# Altium footprint library ATMEGA.PcbLib: 3 footprints
Each footprint in its own frame and in the unit in brackets; x right, y up, seen from the top. Pads: shape width x height; smd on the part's side, far side on the other; paste and mask are expansions set on the pad; w line width, h text height; cw(c..) or ccw(c..) is an arc to the next point about the centre after c.
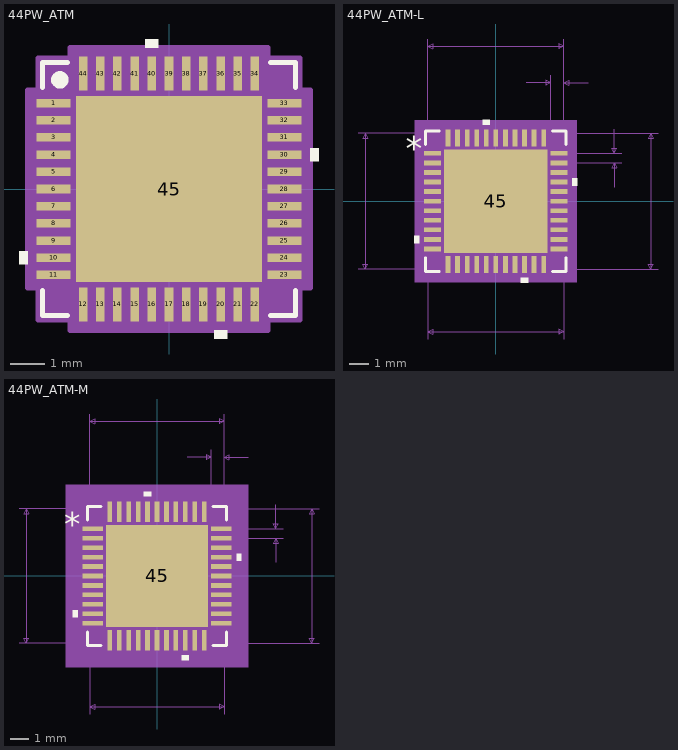
[diagram p0: the footprints below, top view; thin cyan lines are the x and y axes]

## 44PW_ATM [mm]
pads (45):
  rect 0.995x0.249 smd paste+0 mask+0: 1(-3.357,2.5) 2(-3.357,2) 3(-3.357,1.5) 4(-3.357,1) 5(-3.357,0.5) 6(-3.357,0) 7(-3.357,-0.5) 8(-3.357,-1) 9(-3.357,-1.5) 10(-3.357,-2) 11(-3.357,-2.5) 23(3.357,-2.5) 24(3.357,-2) 25(3.357,-1.5) 26(3.357,-1) 27(3.357,-0.5) 28(3.357,0) 29(3.357,0.5) 30(3.357,1) 31(3.357,1.5) 32(3.357,2) 33(3.357,2.5)
  rect 0.249x0.995 smd paste+0 mask+0: 12(-2.5,-3.357) 13(-2,-3.357) 14(-1.5,-3.357) 15(-1,-3.357) 16(-0.5,-3.357) 17(0,-3.357) 18(0.5,-3.357) 19(1,-3.357) 20(1.5,-3.357) 21(2,-3.357) 22(2.5,-3.357) 34(2.5,3.357) 35(2,3.357) 36(1.5,3.357) 37(1,3.357) 38(0.5,3.357) 39(0,3.357) 40(-0.5,3.357) 41(-1,3.357) 42(-1.5,3.357) 43(-2,3.357) 44(-2.5,3.357)
  rect 5.4x5.4 smd paste-2.687 mask+0: 45(0,0)
Top Overlay:
  circle w0.254: c-3.175,3.175 r0.127
  region: -0.309,4.109 -0.69,4.109 -0.69,4.363 -0.309,4.363
  region: 4.109,1.191 4.363,1.191 4.363,0.81 4.109,0.81
  region: 1.69,-4.109 1.309,-4.109 1.309,-4.363 1.69,-4.363
  region: -4.109,-1.81 -4.363,-1.81 -4.363,-2.191 -4.109,-2.191
  lines w0.152: -3.677,-2.957 -3.677,-3.677 -2.957,-3.677 ; -3.677,2.957 -3.677,3.677 -2.957,3.677 ; 2.957,-3.677 3.677,-3.677 3.677,-2.957 ; 2.957,3.677 3.677,3.677 3.677,2.957
Top Paste:
  region: 2.6,-1.45 1.45,-1.45 1.45,-2.6 2.6,-2.6
  region: 2.6,-0.1 1.45,-0.1 1.45,-1.25 2.6,-1.25
  region: 2.6,1.25 1.45,1.25 1.45,0.1 2.6,0.1
  region: 2.6,2.6 1.45,2.6 1.45,1.45 2.6,1.45
  region: 1.25,-1.45 0.1,-1.45 0.1,-2.6 1.25,-2.6
  region: 1.25,-0.1 0.1,-0.1 0.1,-1.25 1.25,-1.25
  region: 1.25,1.25 0.1,1.25 0.1,0.1 1.25,0.1
  region: 1.25,2.6 0.1,2.6 0.1,1.45 1.25,1.45
  region: -0.1,-1.45 -1.25,-1.45 -1.25,-2.6 -0.1,-2.6
  region: -0.1,-0.1 -1.25,-0.1 -1.25,-1.25 -0.1,-1.25
  region: -0.1,1.25 -1.25,1.25 -1.25,0.1 -0.1,0.1
  region: -0.1,2.6 -1.25,2.6 -1.25,1.45 -0.1,1.45
  region: -1.45,-1.45 -2.6,-1.45 -2.6,-2.6 -1.45,-2.6
  region: -1.45,-0.1 -2.6,-0.1 -2.6,-1.25 -1.45,-1.25
  region: -1.45,1.25 -2.6,1.25 -2.6,0.1 -1.45,0.1
  region: -1.45,2.6 -2.6,2.6 -2.6,1.45 -1.45,1.45
Mechanical 13:
  lines w0.025: -3.55,2.28 -2.28,3.55 ; -3.55,-3.55 -3.55,3.55 3.55,3.55 3.55,-3.55 -3.55,-3.55 ; -3.55,-2.65 -3.55,-2.35 -3.55,-2.65 ; -3.55,-2.15 -3.55,-1.85 -3.55,-2.15 ; -3.55,-1.65 -3.55,-1.35 -3.55,-1.65 ; -3.55,-1.15 -3.55,-0.85 -3.55,-1.15 ; -3.55,-0.65 -3.55,-0.35 -3.55,-0.65 ; -3.55,-0.15 -3.55,0.15 -3.55,-0.15 ; -3.55,0.35 -3.55,0.65 -3.55,0.35 ; -3.55,0.85 -3.55,1.15 -3.55,0.85 ; -3.55,1.35 -3.55,1.65 -3.55,1.35 ; -3.55,1.85 -3.55,2.15 -3.55,1.85 ; -3.55,2.35 -3.55,2.65 -3.55,2.35 ; -2.65,-3.55 -2.35,-3.55 -2.65,-3.55 ; -2.65,3.55 -2.35,3.55 -2.65,3.55 ; -2.15,-3.55 -1.85,-3.55 -2.15,-3.55 ; -2.15,3.55 -1.85,3.55 -2.15,3.55 ; -1.65,-3.55 -1.35,-3.55 -1.65,-3.55 ; -1.65,3.55 -1.35,3.55 -1.65,3.55 ; -1.15,-3.55 -0.85,-3.55 -1.15,-3.55 ; -1.15,3.55 -0.85,3.55 -1.15,3.55 ; -0.65,-3.55 -0.35,-3.55 -0.65,-3.55 ; -0.65,3.55 -0.35,3.55 -0.65,3.55 ; -0.15,-3.55 0.15,-3.55 -0.15,-3.55 ; -0.15,3.55 0.15,3.55 -0.15,3.55 ; 0.35,-3.55 0.65,-3.55 0.35,-3.55 ; 0.35,3.55 0.65,3.55 0.35,3.55 ; 0.85,-3.55 1.15,-3.55 0.85,-3.55 ; 0.85,3.55 1.15,3.55 0.85,3.55 ; 1.35,-3.55 1.65,-3.55 1.35,-3.55 ; 1.35,3.55 1.65,3.55 1.35,3.55 ; 1.85,-3.55 2.15,-3.55 1.85,-3.55 ; 1.85,3.55 2.15,3.55 1.85,3.55 ; 2.35,-3.55 2.65,-3.55 2.35,-3.55 ; 2.35,3.55 2.65,3.55 2.35,3.55 ; 3.55,-2.65 3.55,-2.35 3.55,-2.65 ; 3.55,-2.15 3.55,-1.85 3.55,-2.15 ; 3.55,-1.65 3.55,-1.35 3.55,-1.65 ; 3.55,-1.15 3.55,-0.85 3.55,-1.15 ; 3.55,-0.65 3.55,-0.35 3.55,-0.65 ; 3.55,-0.15 3.55,0.15 3.55,-0.15 ; 3.55,0.35 3.55,0.65 3.55,0.35 ; 3.55,0.85 3.55,1.15 3.55,0.85 ; 3.55,1.35 3.55,1.65 3.55,1.35 ; 3.55,1.85 3.55,2.15 3.55,1.85 ; 3.55,2.35 3.55,2.65 3.55,2.35
Mechanical 15:
  region: -2.879,-3.804 -3.804,-3.804 -3.804,-2.879 -4.109,-2.879 -4.109,2.879 -3.804,2.879 -3.804,3.804 -2.879,3.804 -2.879,4.109 2.879,4.109 2.879,3.804 3.804,3.804 3.804,2.879 4.109,2.879 4.109,-2.879 3.804,-2.879 3.804,-3.804 2.879,-3.804 2.879,-4.109 -2.879,-4.109
  lines w0.152: -4.109,-2.879 -4.109,2.879 -3.804,2.879 -3.804,3.804 -2.879,3.804 -2.879,4.109 2.879,4.109 2.879,3.804 3.804,3.804 3.804,2.879 4.109,2.879 4.109,-2.879 3.804,-2.879 3.804,-3.804 2.879,-3.804 2.879,-4.109 -2.879,-4.109 -2.879,-3.804 -3.804,-3.804 -3.804,-2.879 -4.109,-2.879
3D body "44PW_ATM.step": height 1.65, standoff 0, extent -3.55,-3.55 3.55,3.55

## 44PW_ATM-L [mm]
pads (45):
  rect 0.893x0.249 smd paste+0 mask+0: 1(-3.307,2.5) 2(-3.307,2) 3(-3.307,1.5) 4(-3.307,1) 5(-3.307,0.5) 6(-3.307,0) 7(-3.307,-0.5) 8(-3.307,-1) 9(-3.307,-1.5) 10(-3.307,-2) 11(-3.307,-2.5) 23(3.307,-2.5) 24(3.307,-2) 25(3.307,-1.5) 26(3.307,-1) 27(3.307,-0.5) 28(3.307,0) 29(3.307,0.5) 30(3.307,1) 31(3.307,1.5) 32(3.307,2) 33(3.307,2.5)
  rect 0.249x0.893 smd paste+0 mask+0: 12(-2.5,-3.307) 13(-2,-3.307) 14(-1.5,-3.307) 15(-1,-3.307) 16(-0.5,-3.307) 17(0,-3.307) 18(0.5,-3.307) 19(1,-3.307) 20(1.5,-3.307) 21(2,-3.307) 22(2.5,-3.307) 34(2.5,3.307) 35(2,3.307) 36(1.5,3.307) 37(1,3.307) 38(0.5,3.307) 39(0,3.307) 40(-0.5,3.307) 41(-1,3.307) 42(-1.5,3.307) 43(-2,3.307) 44(-2.5,3.307)
  rect 5.4x5.4 smd paste-2.687 mask+0: 45(0,0)
Top Overlay:
  region: -4.007,-1.81 -4.261,-1.81 -4.261,-2.191 -4.007,-2.191
  region: 1.69,-4.007 1.309,-4.007 1.309,-4.261 1.69,-4.261
  region: 4.007,1.191 4.261,1.191 4.261,0.81 4.007,0.81
  region: -0.309,4.007 -0.69,4.007 -0.69,4.261 -0.309,4.261
  lines w0.152: -3.677,-2.957 -3.677,-3.677 -2.957,-3.677 ; -3.677,2.957 -3.677,3.677 -2.957,3.677 ; 2.957,-3.677 3.677,-3.677 3.677,-2.957 ; 2.957,3.677 3.677,3.677 3.677,2.957
  text "*" at -4.706,2.115 h1.27
Top Paste:
  region: -1.45,2.6 -2.6,2.6 -2.6,1.45 -1.45,1.45
  region: -1.45,1.25 -2.6,1.25 -2.6,0.1 -1.45,0.1
  region: -1.45,-0.1 -2.6,-0.1 -2.6,-1.25 -1.45,-1.25
  region: -1.45,-1.45 -2.6,-1.45 -2.6,-2.6 -1.45,-2.6
  region: -0.1,2.6 -1.25,2.6 -1.25,1.45 -0.1,1.45
  region: -0.1,1.25 -1.25,1.25 -1.25,0.1 -0.1,0.1
  region: -0.1,-0.1 -1.25,-0.1 -1.25,-1.25 -0.1,-1.25
  region: -0.1,-1.45 -1.25,-1.45 -1.25,-2.6 -0.1,-2.6
  region: 1.25,2.6 0.1,2.6 0.1,1.45 1.25,1.45
  region: 1.25,1.25 0.1,1.25 0.1,0.1 1.25,0.1
  region: 1.25,-0.1 0.1,-0.1 0.1,-1.25 1.25,-1.25
  region: 1.25,-1.45 0.1,-1.45 0.1,-2.6 1.25,-2.6
  region: 2.6,2.6 1.45,2.6 1.45,1.45 2.6,1.45
  region: 2.6,1.25 1.45,1.25 1.45,0.1 2.6,0.1
  region: 2.6,-0.1 1.45,-0.1 1.45,-1.25 2.6,-1.25
  region: 2.6,-1.45 1.45,-1.45 1.45,-2.6 2.6,-2.6
Mechanical 5:
  region: 4.236,-4.236 -4.236,-4.236 -4.236,4.236 4.236,4.236
Mechanical 7:
  lines w0.025: -7.208,-3.55 3.55,-3.55 ; -7.208,3.55 3.55,3.55 3.55,-7.208 ; -3.55,-7.208 -3.55,3.55 ; -3.55,2.5 -3.55,8.478 ; 1.59,6.192 2.86,6.192 ; 2.5,-3.55 8.478,-3.55 ; 2.5,3.55 8.478,3.55 ; 2.86,2.5 2.86,6.573 ; 3.307,2 6.573,2 ; 3.307,2.5 6.573,2.5 ; 3.55,6.573 3.55,2.5 3.55,8.478 ; 4.82,6.192 3.55,6.192 ; 6.192,0.73 6.192,2 ; 6.192,3.77 6.192,2.5 ; -6.827,-3.55 -6.827,3.55 ; -6.827,-3.55 -6.954,-3.296 -6.7,-3.296 -6.827,-3.55 ; -6.827,3.55 -6.954,3.296 -6.7,3.296 -6.827,3.55 ; -3.55,-6.827 3.55,-6.827 ; -3.55,-6.827 -3.296,-6.7 -3.296,-6.954 -3.55,-6.827 ; -3.55,8.097 3.55,8.097 ; -3.55,8.097 -3.296,8.224 -3.296,7.97 -3.55,8.097 ; 2.86,6.192 2.606,6.319 2.606,6.065 2.86,6.192 ; 3.55,-6.827 3.296,-6.7 3.296,-6.954 3.55,-6.827 ; 3.55,6.192 3.804,6.319 3.804,6.065 3.55,6.192 ; 3.55,8.097 3.296,8.224 3.296,7.97 3.55,8.097 ; 6.192,2 6.065,1.746 6.319,1.746 6.192,2 ; 6.192,2.5 6.065,2.754 6.319,2.754 6.192,2.5 ; 8.097,-3.55 8.097,3.55 ; 8.097,-3.55 7.97,-3.296 8.224,-3.296 8.097,-3.55 ; 8.097,3.55 7.97,3.296 8.224,3.296 8.097,3.55
  text "Default Padstyle: RX9p81Y35p17D0T" at -10.477,-11.627 h1.27
  text "Heat Tab Padstyle: RX212p6Y212p6D0T" at -11.112,-13.151 h1.27
  text "Alt 1 Padstyle: RX29Y107D0T" at -8.572,-16.199 h1.27
  text "Alt 2 Padstyle: OX90Y60D30P" at -8.572,-17.723 h1.27
  text "0.02in/0.5mm" at 6.7,1.933 h0.64
  text "0.027in/0.69mm" at 0.982,6.7 h0.64
  text "0.28in/7.1mm" at -1.905,8.605 h0.64
  text "0.28in/7.1mm" at 8.605,-0.318 h0.64
  text "0.28in/7.1mm" at -11.145,-0.318 h0.64
  text "0.28in/7.1mm" at -1.905,-7.97 h0.64
Mechanical 13:
  drawing of 185 lines, arcs and shapes, not listed
  text "*" at -3.177,2.115 h1.27
Mechanical 15:
  region: -2.726,-3.652 -3.652,-3.652 -3.652,-2.726 -3.855,-2.726 -3.855,2.726 -3.652,2.726 -3.652,3.652 -2.726,3.652 -2.726,3.855 2.726,3.855 2.726,3.652 3.652,3.652 3.652,2.726 3.855,2.726 3.855,-2.726 3.652,-2.726 3.652,-3.652 2.726,-3.652 2.726,-3.855 -2.726,-3.855
  lines w0.152: -3.855,-2.726 -3.652,-2.726 -3.652,-3.652 -2.726,-3.652 -2.726,-3.855 2.726,-3.855 2.726,-3.652 3.652,-3.652 3.652,-2.726 3.855,-2.726 3.855,2.726 3.652,2.726 3.652,3.652 2.726,3.652 2.726,3.855 -2.726,3.855 -2.726,3.652 -3.652,3.652 -3.652,2.726 -3.855,2.726 -3.855,-2.726
3D body "44PW_ATM.step": height 1.65, standoff 0, extent -3.55,-3.55 3.55,3.55

## 44PW_ATM-M [mm]
pads (45):
  rect 1.096x0.249 smd paste+0 mask+0: 1(-3.408,2.5) 2(-3.408,2) 3(-3.408,1.5) 4(-3.408,1) 5(-3.408,0.5) 6(-3.408,0) 7(-3.408,-0.5) 8(-3.408,-1) 9(-3.408,-1.5) 10(-3.408,-2) 11(-3.408,-2.5) 23(3.408,-2.5) 24(3.408,-2) 25(3.408,-1.5) 26(3.408,-1) 27(3.408,-0.5) 28(3.408,0) 29(3.408,0.5) 30(3.408,1) 31(3.408,1.5) 32(3.408,2) 33(3.408,2.5)
  rect 0.249x1.096 smd paste+0 mask+0: 12(-2.5,-3.408) 13(-2,-3.408) 14(-1.5,-3.408) 15(-1,-3.408) 16(-0.5,-3.408) 17(0,-3.408) 18(0.5,-3.408) 19(1,-3.408) 20(1.5,-3.408) 21(2,-3.408) 22(2.5,-3.408) 34(2.5,3.408) 35(2,3.408) 36(1.5,3.408) 37(1,3.408) 38(0.5,3.408) 39(0,3.408) 40(-0.5,3.408) 41(-1,3.408) 42(-1.5,3.408) 43(-2,3.408) 44(-2.5,3.408)
  rect 5.4x5.4 smd paste-2.687 mask+0: 45(0,0)
Top Overlay:
  region: -4.21,-1.81 -4.464,-1.81 -4.464,-2.191 -4.21,-2.191
  region: 1.69,-4.21 1.309,-4.21 1.309,-4.464 1.69,-4.464
  region: 4.21,1.191 4.464,1.191 4.464,0.81 4.21,0.81
  region: -0.309,4.21 -0.69,4.21 -0.69,4.464 -0.309,4.464
  lines w0.152: -3.677,-2.957 -3.677,-3.677 -2.957,-3.677 ; -3.677,2.957 -3.677,3.677 -2.957,3.677 ; 2.957,-3.677 3.677,-3.677 3.677,-2.957 ; 2.957,3.677 3.677,3.677 3.677,2.957
  text "*" at -4.909,2.115 h1.27
Top Paste:
  region: -1.45,2.6 -2.6,2.6 -2.6,1.45 -1.45,1.45
  region: -1.45,1.25 -2.6,1.25 -2.6,0.1 -1.45,0.1
  region: -1.45,-0.1 -2.6,-0.1 -2.6,-1.25 -1.45,-1.25
  region: -1.45,-1.45 -2.6,-1.45 -2.6,-2.6 -1.45,-2.6
  region: -0.1,2.6 -1.25,2.6 -1.25,1.45 -0.1,1.45
  region: -0.1,1.25 -1.25,1.25 -1.25,0.1 -0.1,0.1
  region: -0.1,-0.1 -1.25,-0.1 -1.25,-1.25 -0.1,-1.25
  region: -0.1,-1.45 -1.25,-1.45 -1.25,-2.6 -0.1,-2.6
  region: 1.25,2.6 0.1,2.6 0.1,1.45 1.25,1.45
  region: 1.25,1.25 0.1,1.25 0.1,0.1 1.25,0.1
  region: 1.25,-0.1 0.1,-0.1 0.1,-1.25 1.25,-1.25
  region: 1.25,-1.45 0.1,-1.45 0.1,-2.6 1.25,-2.6
  region: 2.6,2.6 1.45,2.6 1.45,1.45 2.6,1.45
  region: 2.6,1.25 1.45,1.25 1.45,0.1 2.6,0.1
  region: 2.6,-0.1 1.45,-0.1 1.45,-1.25 2.6,-1.25
  region: 2.6,-1.45 1.45,-1.45 1.45,-2.6 2.6,-2.6
Mechanical 5:
  region: 4.845,-4.845 -4.845,-4.845 -4.845,4.845 4.845,4.845
Mechanical 7:
  lines w0.025: -7.309,-3.55 3.55,-3.55 ; -7.309,3.55 3.55,3.55 3.55,-7.309 ; -3.55,-7.309 -3.55,3.55 ; -3.55,2.5 -3.55,8.579 ; 1.59,6.293 2.86,6.293 ; 2.5,-3.55 8.579,-3.55 ; 2.5,3.55 8.579,3.55 ; 2.86,2.5 2.86,6.674 ; 3.408,2 6.674,2 ; 3.408,2.5 6.674,2.5 ; 3.55,6.674 3.55,2.5 3.55,8.579 ; 4.82,6.293 3.55,6.293 ; 6.293,0.73 6.293,2 ; 6.293,3.77 6.293,2.5 ; -6.928,-3.55 -6.928,3.55 ; -6.928,-3.55 -7.055,-3.296 -6.801,-3.296 -6.928,-3.55 ; -6.928,3.55 -7.055,3.296 -6.801,3.296 -6.928,3.55 ; -3.55,-6.928 3.55,-6.928 ; -3.55,-6.928 -3.296,-6.801 -3.296,-7.055 -3.55,-6.928 ; -3.55,8.198 3.55,8.198 ; -3.55,8.198 -3.296,8.325 -3.296,8.071 -3.55,8.198 ; 2.86,6.293 2.606,6.42 2.606,6.166 2.86,6.293 ; 3.55,-6.928 3.296,-6.801 3.296,-7.055 3.55,-6.928 ; 3.55,6.293 3.804,6.42 3.804,6.166 3.55,6.293 ; 3.55,8.198 3.296,8.325 3.296,8.071 3.55,8.198 ; 6.293,2 6.166,1.746 6.42,1.746 6.293,2 ; 6.293,2.5 6.166,2.754 6.42,2.754 6.293,2.5 ; 8.198,-3.55 8.198,3.55 ; 8.198,-3.55 8.071,-3.296 8.325,-3.296 8.198,-3.55 ; 8.198,3.55 8.071,3.296 8.325,3.296 8.198,3.55
  text "Default Padstyle: RX9p81Y43p17D0T" at -10.477,-11.83 h1.27
  text "Heat Tab Padstyle: RX212p6Y212p6D0T" at -11.112,-13.354 h1.27
  text "Alt 1 Padstyle: RX29Y107D0T" at -8.572,-16.402 h1.27
  text "Alt 2 Padstyle: OX90Y60D30P" at -8.572,-17.926 h1.27
  text "0.02in/0.5mm" at 6.801,1.933 h0.64
  text "0.027in/0.69mm" at 0.982,6.801 h0.64
  text "0.28in/7.1mm" at -1.905,8.706 h0.64
  text "0.28in/7.1mm" at 8.706,-0.318 h0.64
  text "0.28in/7.1mm" at -11.246,-0.318 h0.64
  text "0.28in/7.1mm" at -1.905,-8.071 h0.64
Mechanical 13:
  drawing of 185 lines, arcs and shapes, not listed
  text "*" at -3.177,2.115 h1.27
Mechanical 15:
  region: -3.133,-4.058 -4.058,-4.058 -4.058,-3.133 -4.464,-3.133 -4.464,3.133 -4.058,3.133 -4.058,4.058 -3.133,4.058 -3.133,4.464 3.133,4.464 3.133,4.058 4.058,4.058 4.058,3.133 4.464,3.133 4.464,-3.133 4.058,-3.133 4.058,-4.058 3.133,-4.058 3.133,-4.464 -3.133,-4.464
  lines w0.152: -4.464,-3.133 -4.058,-3.133 -4.058,-4.058 -3.133,-4.058 -3.133,-4.464 3.133,-4.464 3.133,-4.058 4.058,-4.058 4.058,-3.133 4.464,-3.133 4.464,3.133 4.058,3.133 4.058,4.058 3.133,4.058 3.133,4.464 -3.133,4.464 -3.133,4.058 -4.058,4.058 -4.058,3.133 -4.464,3.133 -4.464,-3.133
3D body "44PW_ATM.step": height 1.65, standoff 0, extent -3.55,-3.55 3.55,3.55